# Altium footprint library diode.PCBLIB: 206 footprints (part 12 of 13)
Each footprint in its own frame and in the unit in brackets; x right, y up, seen from the top. Pads: shape width x height; smd on the part's side, far side on the other; paste and mask are expansions set on the pad; w line width, h text height; cw(c..) or ccw(c..) is an arc to the next point about the centre after c.
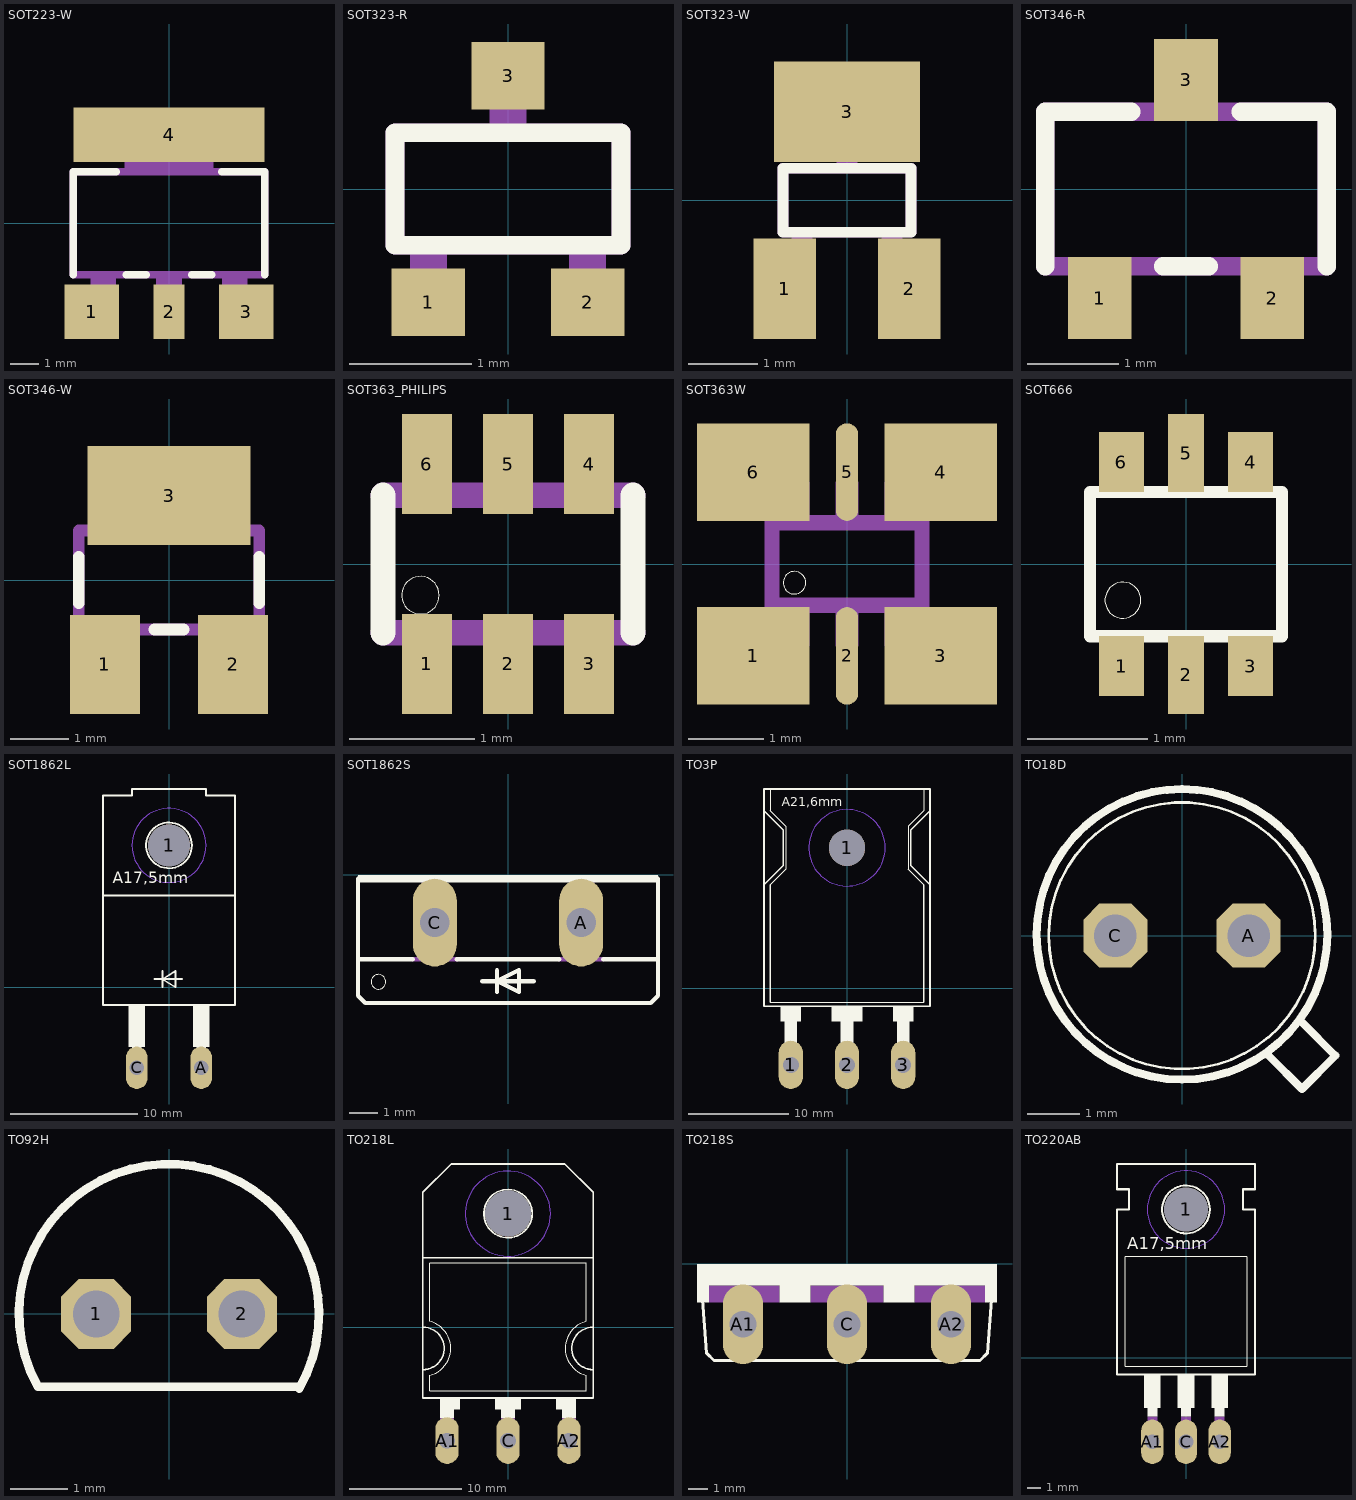
[diagram p11: the footprints below, top view; thin cyan lines are the x and y axes]

## SOT223-W [mm]
pads (4):
  rect 1.9x1.9 smd: 1(-2.7,-3.1) 3(2.7,-3.1)
  rect 1.1x1.9 smd: 2(0,-3.1)
  rect 6.7x1.9 smd: 4(0,3.1)
Top Overlay:
  lines w0.254: -3.35,-1.8 -3.35,1.8 -1.85,1.8 ; -1.5,-1.8 -0.8,-1.8 ; 0.8,-1.8 1.5,-1.8 ; 1.85,1.8 3.35,1.8 3.35,-1.8
Mechanical 16:
  rectangle: -2.75,-3.45 -1.85,-1.9
  rectangle: -0.45,-3.45 0.45,-1.9
  rectangle: 1.85,-3.45 2.75,-1.9
  rectangle: -1.55,1.9 1.55,3.45
  lines w0.254: -3.35,-1.8 -3.35,1.8 3.35,1.8 3.35,-1.8 -3.35,-1.8

## SOT323-R [mm]
pads (3):
  rect 0.6x0.55 smd: 1(-0.65,-0.925) 2(0.65,-0.925) 3(0,0.925)
Top Overlay:
  lines w0.152: -0.923,-0.461 0.923,-0.461 0.923,0.461 -0.923,0.461 -0.923,-0.461
Mechanical 16:
  rectangle: -0.8,-1.1 -0.5,-0.5
  rectangle: 0.5,-1.1 0.8,-0.5
  rectangle: -0.15,0.5 0.15,1.1
  lines w0.152: -0.923,-0.461 0.923,-0.461 0.923,0.461 -0.923,0.461 -0.923,-0.461

## SOT323-W [mil]
pads (3):
  rect 35.43x57.09 smd: 1(-35.43,-50.2) 2(35.43,-50.2)
  rect 82.68x57.09 smd: 3(0,50.2)
Top Overlay:
  lines w6: -36.32,-18.13 36.32,-18.13 36.32,18.13 -36.32,18.13 -36.32,-18.13
Mechanical 16:
  rectangle: -31.5,-43.31 -19.69,-19.69
  rectangle: 19.69,-43.31 31.5,-19.69
  rectangle: -5.91,19.69 5.91,43.31
  lines w6: -36.32,-18.13 36.32,-18.13 36.32,18.13 -36.32,18.13 -36.32,-18.13

## SOT346-R [mil]
pads (3):
  rect 27.56x35.43 smd: 1(-37.4,-47.24) 2(37.4,-47.24) 3(0,47.24)
Top Overlay:
  lines w8: -61.02,-33.46 -61.02,33.46 -23.62,33.46 ; -9.84,-33.46 9.84,-33.46 ; 23.62,33.46 61.02,33.46 61.02,-33.46
Mechanical 16:
  rectangle: -45.28,-59.06 -29.53,-37.4
  rectangle: 29.53,-59.06 45.28,-37.4
  rectangle: -7.87,37.4 7.87,59.06
  lines w8: -61.02,-33.46 61.02,-33.46 61.02,33.46 -61.02,33.46 -61.02,-33.46

## SOT346-W [mil]
pads (3):
  rect 47.24x66.93 smd: 1(-43.31,-57.09) 2(43.31,-57.09)
  rect 110.24x66.93 smd: 3(0,57.09)
Top Overlay:
  lines w8: -61.02,-15.75 -61.02,15.75 ; -9.84,-33.46 9.84,-33.46 ; 61.02,-15.75 61.02,15.75
Mechanical 16:
  rectangle: -45.28,-59.06 -29.53,-37.4
  rectangle: 29.53,-59.06 45.28,-37.4
  rectangle: -7.87,37.4 7.87,59.06
  lines w8: -61.02,-33.46 61.02,-33.46 61.02,33.46 -61.02,33.46 -61.02,-33.46

## SOT363_PHILIPS [mil]
pads (6):
  rect 15.75x31.5 smd: 1(-25.59,-31.5) 2(0,-31.5) 3(25.59,-31.5) 4(25.59,31.5) 5(0,31.5) 6(-25.59,31.5)
Top Overlay:
  circle w0: c-27.56,-9.84 r5.91
  lines w8: -39.37,-21.65 -39.37,21.65 ; 39.37,-21.65 39.37,21.65
Mechanical 16:
  rectangle: -31.5,-43.31 -19.69,-23.62
  rectangle: -5.91,-43.31 5.91,-23.62
  rectangle: 19.69,-43.31 31.5,-23.62
  rectangle: 19.69,23.62 31.5,43.31
  rectangle: -5.91,23.62 5.91,43.31
  rectangle: -31.5,23.62 -19.69,43.31
  lines w8: -39.37,-21.65 39.37,-21.65 ; -39.37,21.65 39.37,21.65

## SOT363W [mil]
pads (6):
  rect 59.06x51.18 smd: 1(-49.21,-48.23) 3(49.21,-48.23) 4(49.21,48.23) 6(-49.21,48.23)
  rrect100% 11.81x51.18 smd: 2(0,-48.23) 5(0,48.23)
Top Overlay:
  circle w0: c-27.56,-9.84 r5.91
Mechanical 16:
  rectangle: -31.5,-43.31 -19.69,-23.62
  rectangle: -5.91,-43.31 5.91,-23.62
  rectangle: 19.69,-43.31 31.5,-23.62
  rectangle: 19.69,23.62 31.5,43.31
  rectangle: -5.91,23.62 5.91,43.31
  rectangle: -31.5,23.62 -19.69,43.31
  lines w8: -39.37,-21.65 39.37,-21.65 39.37,21.65 -39.37,21.65 -39.37,-21.65

## SOT666 [mm]
pads (6):
  rect 0.375x0.5 smd: 1(-0.537,-0.85) 3(0.538,-0.85) 4(0.538,0.849) 6(-0.538,0.85)
  rect 0.3x0.65 smd: 2(0,-0.923) 5(0,0.925)
Top Overlay:
  circle w0: c-0.525,-0.3 r0.15
  lines w0.102: -0.8,-0.6 0.8,-0.6 0.8,0.6 -0.8,0.6 -0.8,-0.6
Mechanical 16:
  region: -0.375,-0.85 -0.375,-0.625 -0.625,-0.625 -0.625,-0.85
  region: 0.125,-0.85 0.125,-0.625 -0.125,-0.625 -0.125,-0.85
  region: 0.625,-0.85 0.625,-0.625 0.375,-0.625 0.375,-0.85
  region: 0.375,0.85 0.375,0.625 0.625,0.625 0.625,0.85
  region: -0.125,0.85 -0.125,0.625 0.125,0.625 0.125,0.85
  region: -0.625,0.85 -0.625,0.625 -0.375,0.625 -0.375,0.85

## SOT1862L [mil]
pads (3):
  round 130 hole 130: 1(0,440)
  oval 66x132 hole 44: A(100,-250) C(-100,-250)
Bottom Layer keep-out:
  circle w0: c0,440 r115
Top Overlay:
  circle w6: c0,440 r71
  rectangle: -125,-185 -75,-55
  rectangle: 75,-185 125,-55
  rectangle: 85,-190 115,-185
  rectangle: -115,-190 -85,-185
  lines w6: -45,25 -20,25 ; -20,0 -20,25 ; -20,50 -20,25 ; 40,25 -20,25 ; -205,285 -205,-55 205,-55 205,285 ; -205,285 205,285 ; -205,285 -205,595 -115,595 -115,615 115,615 115,595 205,595 205,285 ; -20,25 20,0 20,50 -20,25
  text "A17,5mm" at -175,310 h60.45
Mechanical 16:
  rectangle: 85,-255 115,-190
  rectangle: -115,-255 -85,-190
Via Holes:
  circle w0: c0,440 r115

## SOT1862S [mil]
pads (2):
  oval 60x120 hole 40: A(100,-65) C(-100,-65)
Top Overlay:
  circle w0: c-177,-146 r10
  rectangle: -205,-10 205,0
  lines w6: -205,-5 -205,-115 ; -130,-115 -205,-115 ; -70,-115 70,-115 ; -35,-145 -15,-145 ; -15,-160 -15,-145 ; -15,-130 -15,-145 ; 35,-145 -15,-145 ; 130,-115 205,-115 ; 205,-5 205,-115 ; -205,-115 -205,-165 -195,-175 195,-175 205,-165 205,-115 ; -15,-145 15,-130 15,-160 -15,-145
Mechanical 16:
  lines w6: -130,-115 -115,-115 ; -115,-5 -115,-115 ; -70,-115 -115,-115 ; 70,-115 115,-115 ; 115,-5 115,-115 ; 130,-115 115,-115

## TO3P [mil]
pads (4):
  oval 94.5x189 hole 63: 1(-220,-300) 2(0,-300) 3(220,-300)
  round 142 hole 142: 1(0,550)
Bottom Layer keep-out:
  circle w0: c0,550 r150
Top Overlay:
  circle w6: c0,550 r65
  rectangle: -60,-130 60,-70
  rectangle: 180,-130 260,-70
  rectangle: -25,-220 25,-130
  rectangle: 195,-220 245,-130
  rectangle: -260,-130 -180,-70
  rectangle: -245,-220 -195,-130
  lines w2: -300,-55 300,-55 ; -300,405 -240,465 -240,635 -300,695 -300,780 ; 300,405 240,465 240,635 300,695 300,780
  lines w6: -300,-55 -300,405 ; 300,-55 300,405 ; -325,405 -325,-70 325,-70 325,405 ; -325,405 -250,480 -250,620 -325,695 ; -325,405 -325,695 ; -325,695 -325,780 -300,780 300,780 325,780 325,695 ; 325,405 325,695 ; 325,405 250,480 250,620 325,695
  text "A21,6mm" at -255,700 h60.45
Mechanical 16:
  rectangle: -245,-295 -195,-220
  rectangle: -25,-295 25,-220
  rectangle: 195,-295 245,-220
Via Holes:
  circle w0: c0,550 r150

## TO18D [mil]
pads (2):
  oct 48x48 hole 32: A(50,0) C(-50,0)
Top Overlay:
  circle w6: c0,1 r109
  circle w2: c0,0 r100
  lines w6: 65,-90 90,-115 115,-90 90,-65

## TO92H [mil]
pads (2):
  oct 48x48 hole 32: 1(-50,0) 2(50,0)
Top Overlay:
  lines w6: 89.39,-51.08 ccw(c0,0) -90,-50 90,-50

## TO218L [mil]
pads (4):
  round 162 hole 162: 1(0,400)
  oval 82.5x165 hole 55: A1(-215,-400) A2(215,-400) C(0,-400)
Bottom Layer keep-out:
  circle w0: c0,400 r150
Top Overlay:
  circle w6: c0,400 r85
  rectangle: -240,-290 -170,-250
  rectangle: 170,-290 240,-250
  rectangle: -45,-290 45,-250
  rectangle: -240,-320 -190,-250
  rectangle: -25,-320 25,-250
  rectangle: 190,-320 240,-250
  lines w2: 273.71,19.65 ccw(c300,-75) 275,-169.99 275,-225 -275,-225 -275,-170 ccw(c-300,-75) -275,20 -275,225 275,225 275,20
  lines w6: -300,-150 -300,-250 300,-250 300,-150 ; -300,-150 -300,0 ; -300,-150 ccw(c-300,-75) -300,0 ; -300,0 -300,245 ; -300,245 300,245 ; -300,245 -300,475 -200,575 200,575 300,475 300,245 ; 300,-150 300,0 ; 300,-150 cw(c300,-75) 300,0 ; 300,0 300,245
Mechanical 16:
  rectangle: -240,-405 -190,-320
  rectangle: -25,-405 25,-320
  rectangle: 190,-405 240,-320
Via Holes:
  circle w0: c0,400 r150

## TO218S [mil]
pads (3):
  oval 82.5x165 hole 55: A1(-215,-125) A2(215,-125) C(0,-125)
Top Overlay:
  rectangle: -310,-45 310,0
  rectangle: -140,-80 -75,-45
  rectangle: 75,-80 140,-45
  rectangle: -310,-80 -285,-45
  rectangle: 285,-80 310,-45
  lines w6: -300,-60 -290,-185 -275,-200 275,-200 290,-185 300,-60
Mechanical 16:
  rectangle: 140,-80 285,-45
  rectangle: -285,-80 -140,-45
  rectangle: -75,-80 75,-45

## TO220AB [mil]
pads (4):
  round 130 hole 130: 1(0,440)
  oval 66x132 hole 44: A1(-100,-250) A2(100,-250) C(0,-250)
Bottom Layer keep-out:
  circle w0: c0,440 r115
Top Overlay:
  circle w6: c0,440 r71
  rectangle: 85,-175 115,-150
  rectangle: -15,-175 15,-150
  rectangle: -115,-175 -85,-150
  rectangle: -125,-150 -75,-50
  rectangle: -25,-150 25,-50
  rectangle: 75,-150 125,-50
  lines w2: -180,-25 180,-25 180,300 -180,300 -180,-25
  lines w6: -205,-50 205,-50 205,440 170,440 170,500 205,500 205,575 -205,575 -205,500 -170,500 -170,440 -205,440 -205,-50
  text "A17,5mm" at -175,310 h60.45
Mechanical 16:
  rectangle: 85,-250 115,-175
  rectangle: -15,-250 15,-175
  rectangle: -115,-250 -85,-175
Via Holes:
  circle w0: c0,440 r115